# Altium footprint library UBCSolar.PCBLIB: 94 footprints (part 6 of 6)
Each footprint in its own frame and in the unit in brackets; x right, y up, seen from the top. Pads: shape width x height; smd on the part's side, far side on the other; paste and mask are expansions set on the pad; w line width, h text height; cw(c..) or ccw(c..) is an arc to the next point about the centre after c.
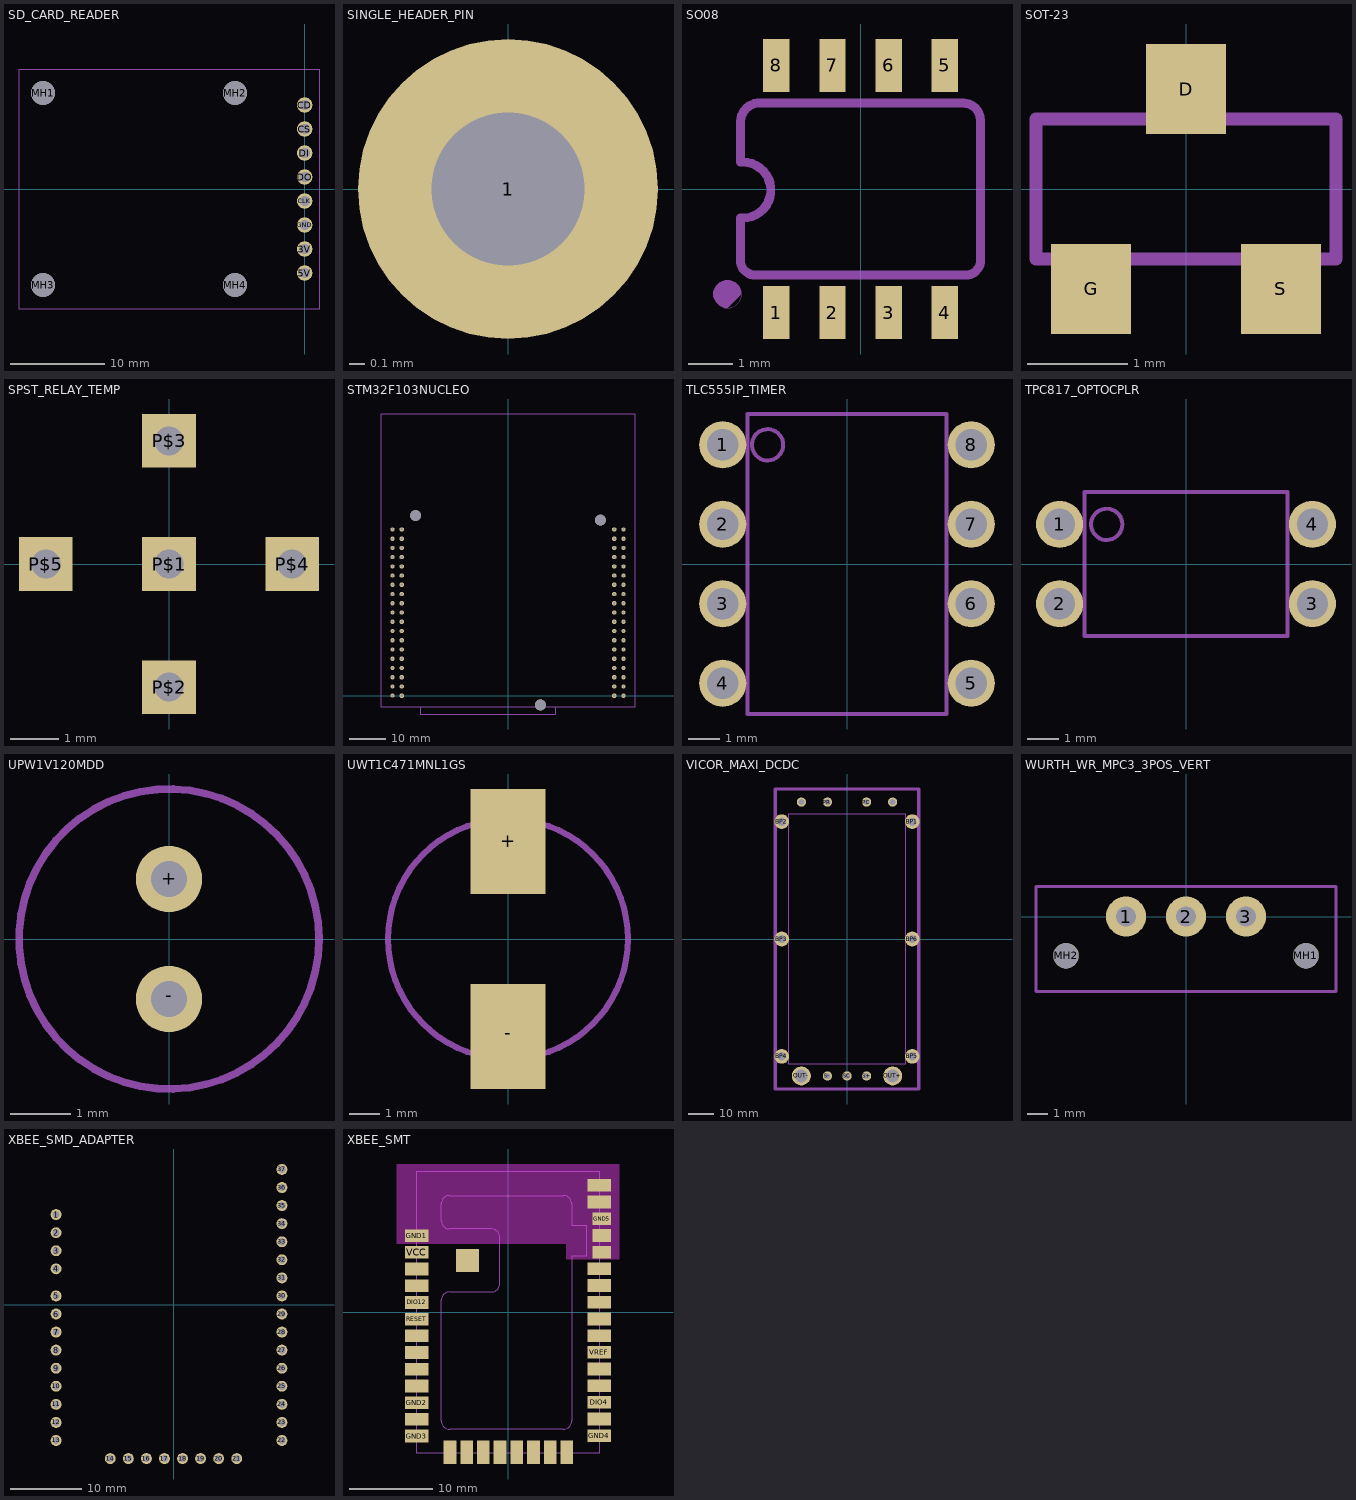
[diagram p5: the footprints below, top view; thin cyan lines are the x and y axes]

## SD_CARD_READER [mil]
pads (12):
  round 64.97 / inner round 60 / far side round 64.97 hole 43.31: 3V(0,-250) 5V(0,-350) CD(0,350) CLK(0,-50) CS(0,250) DI(0,150) DO(0,50) GND(0,-150)
  round 100 hole 100 unplated: MH1(-1090,400) MH2(-290,400) MH3(-1090,-400) MH4(-290,-400)
Top Assembly:
  lines w5: -1190,-500 60,-500 60,500 -1190,500 -1190,-500

## SINGLE_HEADER_PIN [mm]
pads (1):
  round 2 / inner round 1.524 / far side round 2 hole 1.02: 1(0,0)

## SO08 [mil]
pads (8):
  rect 23.62x47.24 smd: 1(-75,-110.24) 2(-25,-110.24) 3(25,-110.24) 4(75,-110.24) 5(75,110.24) 6(25,110.24) 7(-25,110.24) 8(-75,110.24)
Assembly Top:
  region: -85,-130 -85,-89.5 -65,-89.5 -65,-130
  region: -35,-130 -35,-89.5 -15,-89.5 -15,-130
  region: 15,-130 15,-89.5 35,-89.5 35,-130
  region: 65,-130 65,-89.5 85,-89.5 85,-130
  region: -35,90 -35,130 -15,130 -15,90
  region: 15,90 15,130 35,130 35,90
  region: 65,90 65,130 85,130 85,90
  region: -85,90 -85,130 -65,130 -65,90
Top Assembly:
  region: -106.25,-93.75 -106.25,-91.26 -108.15,-86.67 -111.67,-83.15 -116.26,-81.25 -118.75,-81.25 -121.24,-81.25 -125.83,-83.15 -129.35,-86.67 -131.25,-91.26 -131.25,-93.75 -131.25,-96.24 -129.35,-100.83 -125.83,-104.35 -121.24,-106.25 -118.75,-106.25 -116.26,-106.25 -111.67,-104.35 -108.15,-100.83 -106.25,-96.24 -106.25,-93.75 -106.49,-96.19 -108.36,-100.69 -111.81,-104.14 -116.31,-106.01 -118.75,-106.25
  lines w8: -107,-26 -107,-65.56 ccw(c-93.97,-63.6) -92,-76.63 95.94,-76.63 ccw(c93.97,-63.6) 107,-61.63 107,61.63 ccw(c92,61.63) 92,76.63 -92,76.63 ccw(c-90.03,59.66) -107,57.69 ; -107,24 -107,57.19 ; -105,-26 ccw(c-105,-1) -105,24

## SOT-23 [mil]
pads (3):
  rect 31.5x35.43 smd: D(0,39.37) G(-37.4,-39.37) S(37.4,-39.37)
Top Assembly:
  lines w5: -59.06,-27.56 59.06,-27.56 59.06,27.56 -59.06,27.56 -59.06,-27.56

## SPST_RELAY_TEMP [mil]
pads (5):
  rect 43.62x43.62 / inner rect 60x60 / far side rect 43.62x43.62 hole 23.62: P$1(0,0) P$2(0,-100) P$3(0,100) P$4(100,0) P$5(-100,0)

## STM32F103NUCLEO [mm]
pads (79):
  oct 1.158x1.158 / inner oct 1.524x1.524 / far side oct 1.158x1.158 hole 0.65: 3V3(-29.21,27.94) 5V(-29.21,25.4) AGND(31.75,7.62) AVDD(29.21,38.1) BOOT0(-31.75,38.1) E5V(-29.21,40.64) GND#1(-31.75,22.86) GND#2(-29.21,38.1) GND#3(-29.21,22.86) GND#4(-29.21,20.32) GND#5(29.21,35.56) GND#6(31.75,22.86) IOREF(-29.21,33.02) NC#1(-31.75,33.02) NC#2(-31.75,35.56) NC#3(-29.21,35.56) NC#4(-29.21,15.24) NC#5(31.75,35.56) NC#6(31.75,2.54) NC#7(31.75,0) PA0(-29.21,12.7) PA1(-29.21,10.16) PA2(29.21,2.54) PA3(29.21,0) PA4(-29.21,7.62) PA5(29.21,33.02) PA6(29.21,30.48) PA7(29.21,27.94) PA8(29.21,17.78) PA9(29.21,20.32) PA10(29.21,5.08) PA11(31.75,30.48) PA12(31.75,33.02) PA13(-31.75,30.48) PA14(-31.75,27.94) PA15(-31.75,25.4) PB0(-29.21,5.08) PB1(31.75,17.78) PB2(31.75,20.32) PB3(29.21,7.62) PB4(29.21,12.7) PB5(29.21,10.16) PB6(29.21,25.4) PB7(-31.75,20.32) PB8(29.21,43.18) PB9(29.21,40.64) PB10(29.21,15.24) PB11(31.75,25.4) PB12(31.75,27.94) PB13(31.75,10.16) PB14(31.75,12.7) PB15(31.75,15.24) PC0(-29.21,0) PC1(-29.21,2.54) PC2(-31.75,2.54) PC4(31.75,5.08) PC5(31.75,40.64) PC6(31.75,43.18) PC7(29.21,22.86) PC8(31.75,45.72) PC9(29.21,45.72) PC10(-31.75,45.72) PC11(-29.21,45.72) PC12(-31.75,43.18) PC13(-31.75,17.78) PC14(-31.75,15.24) PC15(-31.75,12.7) PD0(-31.75,10.16) PD1(-31.75,7.62) PD2(-29.21,43.18) RESET(-29.21,30.48) U5V(31.75,38.1) VBAT(-31.75,5.08) VDD(-31.75,40.64) VIN(-29.21,17.78)
  round 3 hole 3 unplated: MH1(8.89,-2.54) MH2(-25.4,49.53) MH3(25.4,48.26)
  oct 1.108x1.108 / inner oct 1.524x1.524 / far side oct 1.108x1.108 hole 0.6: PC3(-31.75,0)
Top Assembly:
  lines w0.127: -24.13,-3.04 -35,-3.04 -35,77.46 35,77.46 35,-3.04 13,-3.04 ; -24.13,-3.04 13,-3.04 ; -24.13,-3.04 -24.13,-5.04 13,-5.04 13,-3.04

## TLC555IP_TIMER [mm]
pads (8):
  round 1.508 / inner round 1.524 / far side round 1.508 hole 1: 1(-3.97,3.81) 2(-3.97,1.27) 3(-3.97,-1.27) 4(-3.97,-3.81) 5(3.97,-3.81) 6(3.97,-1.27) 7(3.97,1.27) 8(3.97,3.81)
Top Assembly:
  circle w0.127: c-2.54,3.81 r0.5
  lines w0.127: -3.175,-4.795 3.175,-4.795 3.175,4.795 -3.175,4.795 -3.175,-4.795

## TPC817_OPTOCPLR [mm]
pads (4):
  round 1.508 / inner round 1.524 / far side round 1.508 hole 1: 1(-4.05,1.27) 2(-4.05,-1.27) 3(4.05,-1.27) 4(4.05,1.27)
Top Assembly:
  circle w0.127: c-2.54,1.27 r0.5
  lines w0.127: -3.25,-2.3 3.25,-2.3 3.25,2.3 -3.25,2.3 -3.25,-2.3

## UPW1V120MDD [mm]
pads (2):
  round 1.108 / inner round 1.524 / far side round 1.108 hole 0.6: +(0,1) -(0,-1)
Top Assembly:
  circle w0.127: c0,0 r2.5

## UWT1C471MNL1GS [mil]
pads (2):
  rect 98.43x137.8 smd: +(0,127.95) -(0,-127.95)
Top Assembly:
  circle w8: c0,0 r157.48

## VICOR_MAXI_DCDC [mil]
pads (15):
  round 225 / inner round 60 / far side round 225 hole 128.5: BP1(1000,1800) BP2(-1000,1800) BP3(-1000,0) BP4(-1000,-1800) BP5(1000,-1800) BP6(1000,0)
  round 141 / inner round 60 / far side round 141 hole 94: IN+(700,2100) IN-(-700,2100) PC(300,2100) PR(-300,2100) S+(300,-2100) S-(-300,-2100) SC(0,-2100)
  round 291 / inner round 60 / far side round 291 hole 194: OUT+(700,-2100) OUT-(-700,-2100)
Top Assembly:
  lines w10: -895,-1922 895,-1922 895,1922 -895,1922 -895,-1922
  lines w50: -1100,-2300 1100,-2300 1100,2300 -1100,2300 -1100,-2300

## WURTH_WR_MPC3_3POS_VERT [mm]
pads (5):
  round 2 / inner round 1.524 / far side round 2 hole 1.02: 1(-3,0) 2(0,0) 3(3,0)
  round 1.27 hole 1.27 unplated: MH1(6,-1.96) MH2(-6,-1.96)
Top Assembly:
  lines w0.127: -7.5,-3.75 7.5,-3.75 7.5,1.5 -7.5,1.5 -7.5,-3.75

## XBEE_SMD_ADAPTER [mil]
pads (37):
  round 60.24 / inner round 60 / far side round 60.24 hole 40.16: 1(-650,500) 2(-650,400) 3(-650,300) 4(-650,200) 5(-650,50) 6(-650,-50) 7(-650,-150) 8(-650,-250) 9(-650,-350) 10(-650,-450) 11(-650,-550) 12(-650,-650) 13(-650,-750) 14(-350,-850) 15(-250,-850) 16(-150,-850) 17(-50,-850) 18(50,-850) 19(150,-850) 20(250,-850) 21(350,-850) 22(600,-750) 23(600,-650) 24(600,-550) 25(600,-450) 26(600,-350) 27(600,-250) 28(600,-150) 29(600,-50) 30(600,50) 31(600,150) 32(600,250) 33(600,350) 34(600,450) 35(600,550) 36(600,650) 37(600,750)

## XBEE_SMT [mm]
pads (38):
  rect 2.8x1.52 smd: [RESERVED]1(-10.95,-6.81) [RESERVED]6(10.95,-12.78) [RESERVED]8(10.95,15.22) DIN/DIO14/CONFIG(-10.95,3.19) DIO1/AD1(10.95,5.22) DIO2/AD2(10.95,3.22) DIO3/AD3(10.95,1.22) DIO4(10.95,-10.78) DIO5/ASSOC(10.95,-2.78) DIO6/RTS(10.95,-0.78) DIO7/CTS(10.95,-8.78) DIO8/DTR/SLEEP_RQ(-10.95,-8.81) DIO9/ON/SLEEP(10.95,-6.78) DIO10/RSSI/PWM0(-10.95,-2.81) DIO11/PWM1(-10.95,-4.81) DIO12(-10.95,1.19) DIO13/DOUT(-10.95,5.19) DO19/SPI_ATTN(-10.95,-12.81) GND1(-10.95,9.19) GND2(-10.95,-10.81) GND3(-10.95,-14.81) GND4(10.95,-14.78) RESET(-10.95,-0.81) RF_PAD(10.95,13.22) VCC(-10.95,7.19) VREF(10.95,-4.78)
  rect 1.52x2.8 smd: [RESERVED]2(1.05,-16.76) [RESERVED]3(3.05,-16.76) [RESERVED]4(5.05,-16.76) [RESERVED]5(7.05,-16.76) DO15/SPI_MISO(-0.95,-16.76) DO16/SPI_MOSI(-2.95,-16.76) DO17/SPI_SSEL(-4.95,-16.76) DO18/SPI_CLK(-6.95,-16.76)
  rect 2.2x1.52 smd: [RESERVED]7(11.25,9.22) DIO0/AD0(11.25,7.22) GND5(11.25,11.22)
  rect 2.79x2.79 smd: GND_PAD(-4.855,6.225)
Top keep-out:
  region: -13.335,8.255 6.985,8.255 6.985,6.35 13.335,6.35 13.335,6.985 13.335,17.78 -12.7,17.78 -13.335,17.78
Dimension:
  lines w0.127: -8,-13 ccw(c-7,-13) -7,-14 6.62,-14 ccw(c6.62,-13) 7.62,-13 7.62,6.74 9.35,6.74 9.35,10.42 7.62,10.42 7.62,13 ccw(c6.62,13) 6.62,14 -7,14 ccw(c-7,13) -8,13 -8,11 ccw(c-7,11) -7,10 -2,10 cw(c-2,9) -1,9 -1,3.45 cw(c-2,3.45) -2,2.45 -7,2.45 ccw(c-7,1.45) -8,1.45 -8,-13
Top Assembly:
  lines w0.127: -10.95,-16.89 10.95,-16.89 10.95,16.89 -10.95,16.89 -10.95,-16.89